# EAGLE library part LSM303DLH (library ST_Microelctronics_By_element14_Batch_1)
Sensor module
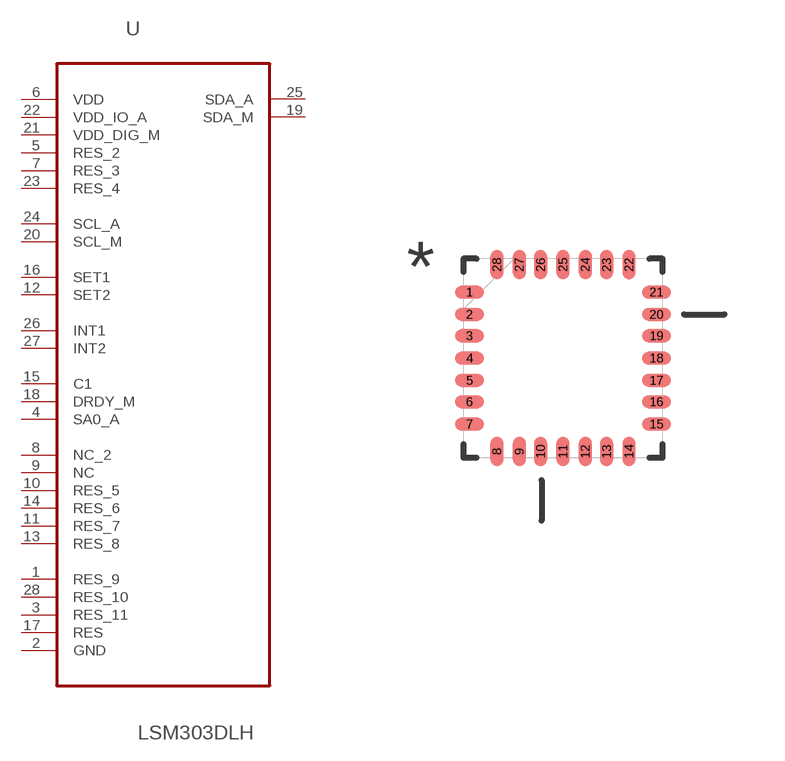
[diagram p136: symbol with the pads of LGA28R55P7X7_500X500X100; footprint LGA28R55P7X7_500X500X100]

Designator prefix U

## LSM303DLH (MPN: LSM303DLH; OC_FARNELL: 1838545; OC_NEWARK: 71R6476; PACKAGE: LGA-28; SUPPLIER: STMicroelectronics)  [LGA28R55P7X7_500X500X100]
1  RES_9  pas
2  GND  pas
3  RES_11  pas
4  SA0_A  in
5  RES_2  pwr
6  VDD  pwr
7  RES_3  pwr
8  NC_2  nc
9  NC  nc
10  RES_5  nc
11  RES_7  nc
12  SET2  in
13  RES_8  nc
14  RES_6  nc
15  C1  pas
16  SET1  in
17  RES  pas
18  DRDY_M  in
19  SDA_M
20  SCL_M  in
21  VDD_DIG_M  pwr
22  VDD_IO_A  pwr
23  RES_4  pwr
24  SCL_A  in
25  SDA_A
26  INT1  in
27  INT2  in
28  RES_10  pas

## Footprint LGA28R55P7X7_500X500X100 (pad centres in mm)
smd 0.737 x 0.33: 1 -2.337,1.651; 2 -2.337,1.092; 3 -2.337,0.559; 4 -2.337,0; 5 -2.337,-0.559; 6 -2.337,-1.092; 7 -2.337,-1.651; 15 2.337,-1.651; 16 2.337,-1.092; 17 2.337,-0.559; 18 2.337,0; 19 2.337,0.559; 20 2.337,1.092; 21 2.337,1.651
smd 0.33 x 0.737: 8 -1.651,-2.337; 9 -1.092,-2.337; 10 -0.559,-2.337; 11 0,-2.337; 12 0.559,-2.337; 13 1.092,-2.337; 14 1.651,-2.337; 22 1.651,2.337; 23 1.092,2.337; 24 0.559,2.337; 25 0,2.337; 26 -0.559,2.337; 27 -1.092,2.337; 28 -1.651,2.337